# EAGLE library part MC14528BCPG (library ON Semiconductor_By_element14_Batch_1)
Dual Monostable Multivibrator
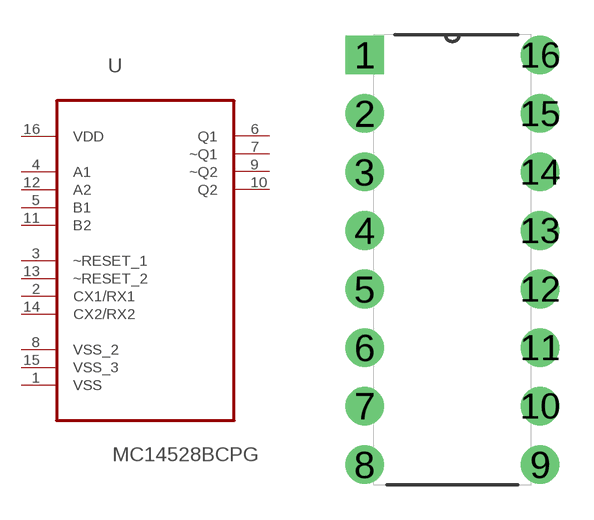
[diagram p286: symbol with the pads of DIP254P762X444-16; footprint DIP254P762X444-16]

Designator prefix U

## MC14528BCPG (MPN: MC14528BCPG; OC_FARNELL: 9665749; OC_NEWARK: 45J1116; P1I: o; PACKAGE: PDIP-16; SUPPLIER: On semiconductors)  [DIP254P762X444-16]
1  VSS  pwr
2  CX1/RX1  pas
3  ~RESET_1  in
4  A1  in
5  B1  in
6  Q1  out
7  ~Q1  out
8  VSS_2  pwr
9  ~Q2  out
10  Q2  out
11  B2  in
12  A2  in
13  ~RESET_2  in
14  CX2/RX2  pas
15  VSS_3  pwr
16  VDD  pwr

## Footprint DIP254P762X444-16 (pad centres in mm)
drill 1.118 square: 1 -7.62,17.78
drill 1.118: 2 -7.62,15.24; 3 -7.62,12.7; 4 -7.62,10.16; 5 -7.62,7.62; 6 -7.62,5.08; 7 -7.62,2.54; 8 -7.62,0; 9 0,0; 10 0,2.54; 11 0,5.08; 12 0,7.62; 13 0,10.16; 14 0,12.7; 15 0,15.24; 16 0,17.78